# Altium schematic symbol library Schlib1.SchLib: 1 symbol
Pins are listed as number, name and electrical type; pins without a type are passive.

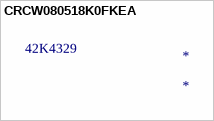
[diagram p0: symbol CRCW080518K0FKEA]

## CRCW080518K0FKEA
designator *  Supplier Part Number 1: 42K4329
Res Thick Film 0805 18K Ohm 1% 1/8W ±100ppm/°C Molded SMD SMD Paper T/R; Manufacturer: Vishay; Manufacturer Part Number: CRCW080518K0FKEA; Resistance: 18kR; Power Rating: 125mW; Voltage Rating: 150V; Supplier 1: Newark; RoHS: Yes; Category: Chip SMD Resistors; Stock 1: 10000; Pricing 1: 1=0,01100, 5000=0,01100 (USD); Case/Package: 0805; Number of Pins: 2; Case Code (Metric): 2012; Case Code (Imperial): 0805; Contact Plating: Tin; Weight: 0.000194oz; Min Operating Temperature: -55°C; Max Operating Temperature: 155°C; Resistor Type: Thick Film; Tolerance: 1%; Packaging: Tape and Reel; Number of Terminations: 2; Temperature Coefficient: 100ppm/°C; Max Power Dissipation: 125mW; Voltage Rating (DC): 150V; Series: CRCW; Resistance Tolerance: 1%; Construction: Rectangular; Package Quantity: 10; Features: Automotive AEC-Q200; Termination: SMD/SMT; Technology: THICK FILM; Working Voltage: 150V; Length: 2mm; Width: 0.049inch; Height: 0.45mm; Depth: 1.25mm; Radiation Hardening: No; REACH SVHC: Unknown; Military Standard: Not; RoHS Compliant: Yes; Lead Free: Lead Free; ComponentLink1URL: https://datasheet.ciiva.com/11810/0900766b80d98b26-11810092.pdf?src-supplier=RSComponents; ComponentLink1Description: https://datasheet.ciiva.com/11810/0900766b80d98b26-11810092.pdf?src-supplier=RSComponents; ComponentLink2URL: https://datasheet.ciiva.com/2467/dcrcwe3-2467587.pdf?src-supplier=Digi-Key; ComponentLink2Description: https://datasheet.ciiva.com/2467/dcrcwe3-2467587.pdf?src-supplier=Digi-Key; ComponentLink3URL: https://datasheet.ciiva.com/2467/dcrcwe3-2467588.pdf?src-supplier=Digi-Key; ComponentLink3Description: https://datasheet.ciiva.com/2467/dcrcwe3-2467588.pdf?src-supplier=Digi-Key; ComponentLink4URL: https://datasheet.ciiva.com/2467/dcrcwe3-2467589.pdf?src-supplier=Digi-Key; ComponentLink4Description: https://datasheet.ciiva.com/2467/dcrcwe3-2467589.pdf?src-supplier=Digi-Key; ComponentLink5URL: https://datasheet.ciiva.com/9035/dcrcwe3-9035174.pdf?src-supplier=Avnet; ComponentLink5Description: https://datasheet.ciiva.com/9035/dcrcwe3-9035174.pdf?src-supplier=Avnet; ComponentLink6URL: https://datasheet.ciiva.com/26317/fld-crcw-e3-data-en-26317159.pdf?src-supplier=Distrelec; ComponentLink6Description: https://datasheet.ciiva.com/26317/fld-crcw-e3-data-en-26317159.pdf?src-supplier=Distrelec; ComponentLink7URL: https://datasheet.ciiva.com/7841/1697337-7841640.pdf?src-supplier=Element14; ComponentLink7Description: https://datasheet.ciiva.com/7841/1697337-7841640.pdf?src-supplier=Element14; ComponentLink8URL: https://datasheet.ciiva.com/16771/70201119-16771992.pdf?src-supplier=Allied+Electronics; ComponentLink8Description: https://datasheet.ciiva.com/16771/70201119-16771992.pdf?src-supplier=Allied+Electronics; ComponentLink9URL: https://datasheet.ciiva.com/16202/dcrcw-16202233.pdf?src-supplier=Future+Electronics; ComponentLink9Description: https://datasheet.ciiva.com/16202/dcrcw-16202233.pdf?src-supplier=Future+Electronics; ComponentLink10URL: https://datasheet.ciiva.com/17186/dcrcwe3-17186219.pdf?src-supplier=Avnet+Europe; ComponentLink10Description: https://datasheet.ciiva.com/17186/dcrcwe3-17186219.pdf?src-supplier=Avnet+Europe; ComponentLink11URL: https://datasheet.ciiva.com/5542/dcrcwe3-109170-5542511.pdf?src-supplier=Mouser; ComponentLink11Description: https://datasheet.ciiva.com/5542/dcrcwe3-109170-5542511.pdf?src-supplier=Mouser